# Altium integrated library IOT.IntLib: 4 symbols
Pins are listed as number, name and electrical type; pins without a type are passive.

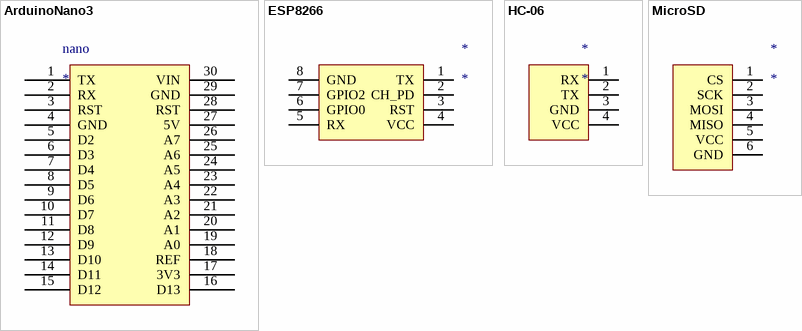
[diagram p0: symbols ArduinoNano3 to MicroSD]

## ArduinoNano3
designator nano
footprint Nano3
pins: 1 TX, 2 RX, 3 RST, 4 GND, 5 D2, 6 D3, 7 D4, 8 D5, 9 D6, 10 D7, 11 D8, 12 D9, 13 D10, 14 D11, 15 D12, 16 D13, 17 3V3, 18 REF, 19 A0, 20 A1, 21 A2, 22 A3, 23 A4, 24 A5, 25 A6, 26 A7, 27 5V, 28 RST, 29 GND, 30 VIN

## ESP8266
designator *
footprint ESP8266Module
pins: 1 TX, 2 CH_PD, 3 RST, 4 VCC, 5 RX, 6 GPIO0, 7 GPIO2, 8 GND

## HC-06
designator *
footprint HC-06
pins: 1 RX, 2 TX, 3 GND, 4 VCC

## MicroSD
designator *
footprint MicroSD
pins: 1 CS, 2 SCK, 3 MOSI, 4 MISO, 5 VCC, 6 GND